# EAGLE library part SN74AUP2G34DCKR (library Personal)
SOT363 Package SC70 Package
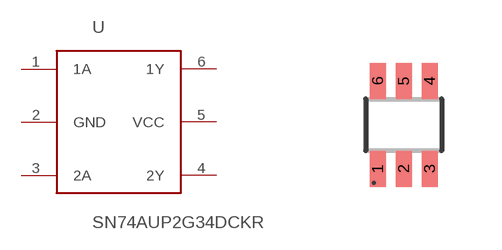
[diagram p1: symbol with the pads of SN74AUP2G34DCKR; footprint SN74AUP2G34DCKR]

Designator prefix -

## SN74AUP2G34DCKR  [SN74AUP2G34DCKR]
1  1A
2  GND
3  2A
4  2Y
5  VCC
6  1Y

## Footprint SN74AUP2G34DCKR (pad centres in mm)
smd 0.4 x 0.9: 1 0.2,-1.75; 2 0.85,-1.75; 3 1.5,-1.75; 4 1.5,0.45; 5 0.85,0.45; 6 0.2,0.45